# Altium footprint library RP2040PCBLib.PcbLib: 2 footprints
Each footprint in its own frame and in the unit in brackets; x right, y up, seen from the top. Pads: shape width x height; smd on the part's side, far side on the other; paste and mask are expansions set on the pad; w line width, h text height; cw(c..) or ccw(c..) is an arc to the next point about the centre after c.
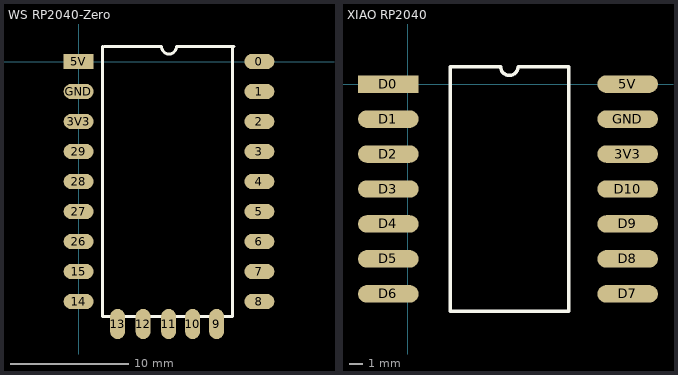
[diagram p0: the footprints below, top view; thin cyan lines are the x and y axes]

## WS RP2040-Zero [mm]
pads (23):
  oval 2.54x1.27 smd: 0(15.3,0) 1(15.3,-2.54) 2(15.3,-5.08) 3(15.3,-7.62) 3V3(0,-5.08) 4(15.3,-10.16) 5(15.3,-12.7) 6(15.3,-15.24) 7(15.3,-17.78) 8(15.3,-20.32) 14(0,-20.32) 15(0,-17.78) 26(0,-15.24) 27(0,-12.7) 28(0,-10.16) 29(0,-7.62) GND(0,-2.54)
  rect 2.54x1.27 smd: 5V(0,0)
  oval 1.27x2.54 smd: 9(11.684,-22.225) 10(9.652,-22.225) 11(7.62,-22.225) 12(5.461,-22.225) 13(3.302,-22.225)
Top Overlay:
  lines w0.254: 2.032,1.27 2.032,-21.59 13.014,-21.59 13.014,1.27 ; 2.159,1.27 7.015,1.27 ccw(c7.65,1.27) 8.285,1.27 13.141,1.27

## XIAO RP2040 [mil]
pads (14):
  oval 173.23x50 smd: 3V3(630,-200) 5V(630,0) D1(-55,-100) D2(-55,-200) D3(-55,-300) D4(-55,-400) D5(-55,-500) D6(-55,-600) D7(630,-600) D8(630,-500) D9(630,-400) D10(630,-300) GND(630,-100)
  rect 173.23x50 smd: D0(-55,0)
Top Overlay:
  lines w10: 121.61,-650 461.06,-650 461.06,50 316.34,50 cw(c291.34,50) 266.34,50 121.61,50 121.61,-650